# EAGLE library part TUSB2046B (library IC)
Texas Instruments 4-Port USB HUb,Digi-Key Part Number 296-11087-1-ND,Manufacturer Part Number TUSB2046BIVFR,Description IC 4-PORT USB HUB 32-LQFP,Voltage - Supply 3 V ~ 3.6 V,Current - Supply 40mA Operating Temperature -40°C ~ 85°C,Mounting Type Surface Mount,Package / Case 32-LQFP
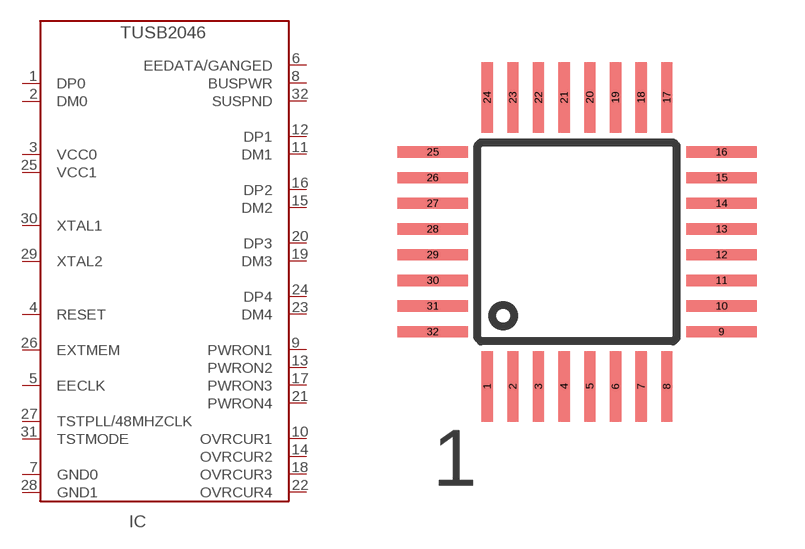
[diagram p195: symbol with the pads of LQFP-32; footprint LQFP-32]

Designator prefix IC

## TUSB2046B  [LQFP-32]
1  DP0
2  DM0
3  VCC0
4  RESET
5  EECLK
6  EEDATA/GANGED
7  GND0
8  BUSPWR
9  PWRON1
10  OVRCUR1
11  DM1
12  DP1
13  PWRON2
14  OVRCUR2
15  DM2
16  DP2
17  PWRON3
18  OVRCUR3
19  DM3
20  DP3
21  PWRON4
22  OVRCUR4
23  DM4
24  DP4
25  VCC1
26  EXTMEM
27  TSTPLL/48MHZCLK
28  GND1
29  XTAL2
30  XTAL1
31  TSTMODE
32  SUSPND

## Footprint LQFP-32 (pad centres in mm)
smd 0.35 x 2.2: 1 -2.8,-4.5; 2 -2,-4.5; 3 -1.2,-4.5; 4 -0.4,-4.5; 5 0.4,-4.5; 6 1.2,-4.5; 7 2,-4.5; 8 2.8,-4.5; 17 2.8,4.5; 18 2,4.5; 19 1.2,4.5; 20 0.4,4.5; 21 -0.4,4.5; 22 -1.2,4.5; 23 -2,4.5; 24 -2.8,4.5
smd 2.2 x 0.35: 9 4.5,-2.8; 10 4.5,-2; 11 4.5,-1.2; 12 4.5,-0.4; 13 4.5,0.4; 14 4.5,1.2; 15 4.5,2; 16 4.5,2.8; 25 -4.5,2.8; 26 -4.5,2; 27 -4.5,1.2; 28 -4.5,0.4; 29 -4.5,-0.4; 30 -4.5,-1.2; 31 -4.5,-2; 32 -4.5,-2.8